# Altium footprint library BGA (1mm Pitch, Square4).PcbLib: 11 footprints (part 5 of 5)
Each footprint in its own frame and in the unit in brackets; x right, y up, seen from the top. Pads: shape width x height; smd on the part's side, far side on the other; paste and mask are expansions set on the pad; w line width, h text height; cw(c..) or ccw(c..) is an arc to the next point about the centre after c.
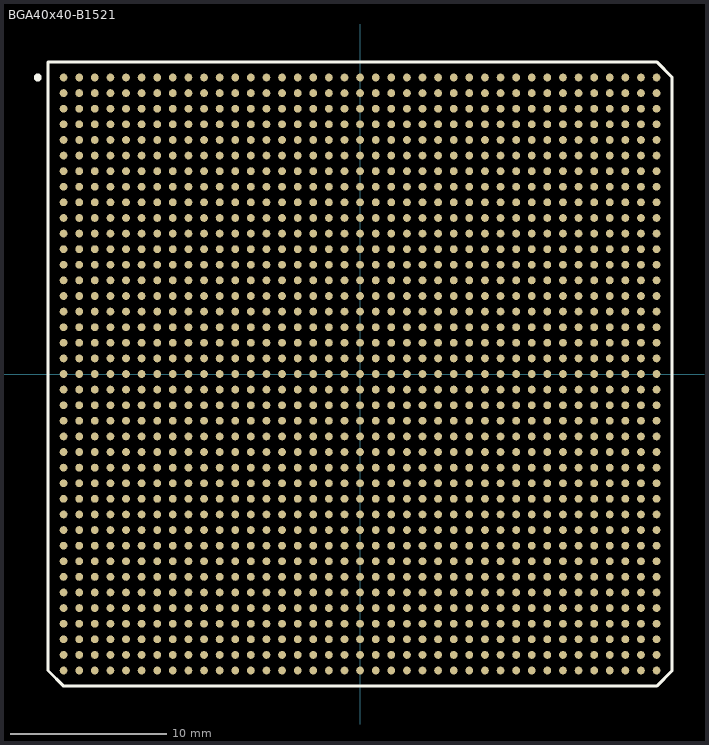
[diagram p4: the footprint, top view; thin cyan lines are the x and y axes]

## BGA40x40-B1521 [mm] "BGA; 1521 Balls; Body 40 x 40 mm; Pitch 1 mm"
height 3.5
pads (1521):
  round 0.5 smd: A1(-19,19) A2(-18,19) A3(-17,19) A4(-16,19) A5(-15,19) A6(-14,19) A7(-13,19) A8(-12,19) A9(-11,19) A10(-10,19) A11(-9,19) A12(-8,19) A13(-7,19) A14(-6,19) A15(-5,19) A16(-4,19) A17(-3,19) A18(-2,19) A19(-1,19) A20(0,19) A21(1,19) A22(2,19) A23(3,19) A24(4,19) A25(5,19) A26(6,19) A27(7,19) A28(8,19) A29(9,19) A30(10,19) A31(11,19) A32(12,19) A33(13,19) A34(14,19) A35(15,19) A36(16,19) A37(17,19) A38(18,19) A39(19,19) AA1(-19,-1) AA2(-18,-1) AA3(-17,-1) AA4(-16,-1) AA5(-15,-1) AA6(-14,-1) AA7(-13,-1) AA8(-12,-1) AA9(-11,-1) AA10(-10,-1) AA11(-9,-1) AA12(-8,-1) AA13(-7,-1) AA14(-6,-1) AA15(-5,-1) AA16(-4,-1) AA17(-3,-1) AA18(-2,-1) AA19(-1,-1) AA20(0,-1) AA21(1,-1) AA22(2,-1) AA23(3,-1) AA24(4,-1) AA25(5,-1) AA26(6,-1) AA27(7,-1) AA28(8,-1) AA29(9,-1) AA30(10,-1) AA31(11,-1) AA32(12,-1) AA33(13,-1) AA34(14,-1) AA35(15,-1) AA36(16,-1) AA37(17,-1) AA38(18,-1) AA39(19,-1) AB1(-19,-2) AB2(-18,-2) AB3(-17,-2) AB4(-16,-2) AB5(-15,-2) AB6(-14,-2) AB7(-13,-2) AB8(-12,-2) AB9(-11,-2) AB10(-10,-2) AB11(-9,-2) AB12(-8,-2) AB13(-7,-2) AB14(-6,-2) AB15(-5,-2) AB16(-4,-2) AB17(-3,-2) AB18(-2,-2) AB19(-1,-2) AB20(0,-2) AB21(1,-2) AB22(2,-2) AB23(3,-2) AB24(4,-2) AB25(5,-2) AB26(6,-2) AB27(7,-2) AB28(8,-2) AB29(9,-2) AB30(10,-2) AB31(11,-2) AB32(12,-2) AB33(13,-2) AB34(14,-2) AB35(15,-2) AB36(16,-2) AB37(17,-2) AB38(18,-2) AB39(19,-2) AC1(-19,-3) AC2(-18,-3) AC3(-17,-3) AC4(-16,-3) AC5(-15,-3) AC6(-14,-3) AC7(-13,-3) AC8(-12,-3) AC9(-11,-3) AC10(-10,-3) AC11(-9,-3) AC12(-8,-3) AC13(-7,-3) AC14(-6,-3) AC15(-5,-3) AC16(-4,-3) AC17(-3,-3) AC18(-2,-3) AC19(-1,-3) AC20(0,-3) AC21(1,-3) AC22(2,-3) AC23(3,-3) AC24(4,-3) AC25(5,-3) AC26(6,-3) AC27(7,-3) AC28(8,-3) AC29(9,-3) AC30(10,-3) AC31(11,-3) AC32(12,-3) AC33(13,-3) AC34(14,-3) AC35(15,-3) AC36(16,-3) AC37(17,-3) AC38(18,-3) AC39(19,-3) AD1(-19,-4) AD2(-18,-4) AD3(-17,-4) AD4(-16,-4) AD5(-15,-4) AD6(-14,-4) AD7(-13,-4) AD8(-12,-4) AD9(-11,-4) AD10(-10,-4) AD11(-9,-4) AD12(-8,-4) AD13(-7,-4) AD14(-6,-4) AD15(-5,-4) AD16(-4,-4) AD17(-3,-4) AD18(-2,-4) AD19(-1,-4) AD20(0,-4) AD21(1,-4) AD22(2,-4) AD23(3,-4) AD24(4,-4) AD25(5,-4) AD26(6,-4) AD27(7,-4) AD28(8,-4) AD29(9,-4) AD30(10,-4) AD31(11,-4) AD32(12,-4) AD33(13,-4) AD34(14,-4) AD35(15,-4) AD36(16,-4) AD37(17,-4) AD38(18,-4) AD39(19,-4) AE1(-19,-5) AE2(-18,-5) AE3(-17,-5) AE4(-16,-5) AE5(-15,-5) AE6(-14,-5) AE7(-13,-5) AE8(-12,-5) AE9(-11,-5) AE10(-10,-5) AE11(-9,-5) AE12(-8,-5) AE13(-7,-5) AE14(-6,-5) AE15(-5,-5) AE16(-4,-5) AE17(-3,-5) AE18(-2,-5) AE19(-1,-5) AE20(0,-5) AE21(1,-5) AE22(2,-5) AE23(3,-5) AE24(4,-5) AE25(5,-5) AE26(6,-5) AE27(7,-5) AE28(8,-5) AE29(9,-5) AE30(10,-5) AE31(11,-5) AE32(12,-5) AE33(13,-5) AE34(14,-5) AE35(15,-5) AE36(16,-5) AE37(17,-5) AE38(18,-5) AE39(19,-5) AF1(-19,-6) AF2(-18,-6) AF3(-17,-6) AF4(-16,-6) AF5(-15,-6) AF6(-14,-6) AF7(-13,-6) AF8(-12,-6) AF9(-11,-6) AF10(-10,-6) AF11(-9,-6) AF12(-8,-6) AF13(-7,-6) AF14(-6,-6) AF15(-5,-6) AF16(-4,-6) AF17(-3,-6) AF18(-2,-6) AF19(-1,-6) AF20(0,-6) AF21(1,-6) AF22(2,-6) AF23(3,-6) AF24(4,-6) AF25(5,-6) AF26(6,-6) AF27(7,-6) AF28(8,-6) AF29(9,-6) AF30(10,-6) AF31(11,-6) AF32(12,-6) AF33(13,-6) AF34(14,-6) AF35(15,-6) AF36(16,-6) AF37(17,-6) AF38(18,-6) AF39(19,-6) AG1(-19,-7) AG2(-18,-7) AG3(-17,-7) AG4(-16,-7) AG5(-15,-7) AG6(-14,-7) AG7(-13,-7) AG8(-12,-7) AG9(-11,-7) AG10(-10,-7) AG11(-9,-7) AG12(-8,-7) AG13(-7,-7) AG14(-6,-7) AG15(-5,-7) AG16(-4,-7) AG17(-3,-7) AG18(-2,-7) AG19(-1,-7) AG20(0,-7) AG21(1,-7) AG22(2,-7) AG23(3,-7) AG24(4,-7) AG25(5,-7) AG26(6,-7) AG27(7,-7) AG28(8,-7) AG29(9,-7) AG30(10,-7) AG31(11,-7) AG32(12,-7) AG33(13,-7) AG34(14,-7) AG35(15,-7) AG36(16,-7) AG37(17,-7) AG38(18,-7) AG39(19,-7) AH1(-19,-8) AH2(-18,-8) AH3(-17,-8) AH4(-16,-8) AH5(-15,-8) AH6(-14,-8) AH7(-13,-8) AH8(-12,-8) AH9(-11,-8) AH10(-10,-8) AH11(-9,-8) AH12(-8,-8) AH13(-7,-8) AH14(-6,-8) AH15(-5,-8) AH16(-4,-8) AH17(-3,-8) AH18(-2,-8) AH19(-1,-8) AH20(0,-8) AH21(1,-8) AH22(2,-8) AH23(3,-8) AH24(4,-8) AH25(5,-8) AH26(6,-8) AH27(7,-8) AH28(8,-8) AH29(9,-8) AH30(10,-8) AH31(11,-8) AH32(12,-8) AH33(13,-8) AH34(14,-8) AH35(15,-8) AH36(16,-8) AH37(17,-8) AH38(18,-8) AH39(19,-8) AJ1(-19,-9) AJ2(-18,-9) AJ3(-17,-9) AJ4(-16,-9) AJ5(-15,-9) AJ6(-14,-9) AJ7(-13,-9) AJ8(-12,-9) AJ9(-11,-9) AJ10(-10,-9) AJ11(-9,-9) AJ12(-8,-9) AJ13(-7,-9) AJ14(-6,-9) AJ15(-5,-9) AJ16(-4,-9) AJ17(-3,-9) AJ18(-2,-9) AJ19(-1,-9) AJ20(0,-9) AJ21(1,-9) AJ22(2,-9) AJ23(3,-9) AJ24(4,-9) AJ25(5,-9) AJ26(6,-9) AJ27(7,-9) AJ28(8,-9) AJ29(9,-9) AJ30(10,-9) AJ31(11,-9) AJ32(12,-9) AJ33(13,-9) AJ34(14,-9) AJ35(15,-9) AJ36(16,-9) AJ37(17,-9) AJ38(18,-9) AJ39(19,-9) AK1(-19,-10) AK2(-18,-10) AK3(-17,-10) AK4(-16,-10) AK5(-15,-10) AK6(-14,-10) AK7(-13,-10) AK8(-12,-10) AK9(-11,-10) AK10(-10,-10) AK11(-9,-10) AK12(-8,-10) AK13(-7,-10) AK14(-6,-10) AK15(-5,-10) AK16(-4,-10) AK17(-3,-10) AK18(-2,-10) AK19(-1,-10) AK20(0,-10) AK21(1,-10) AK22(2,-10) AK23(3,-10) AK24(4,-10) AK25(5,-10) AK26(6,-10) AK27(7,-10) AK28(8,-10) AK29(9,-10) AK30(10,-10) AK31(11,-10) AK32(12,-10) AK33(13,-10) AK34(14,-10) AK35(15,-10) AK36(16,-10) AK37(17,-10) AK38(18,-10) AK39(19,-10) AL1(-19,-11) AL2(-18,-11) AL3(-17,-11) AL4(-16,-11) AL5(-15,-11) AL6(-14,-11) AL7(-13,-11) AL8(-12,-11) AL9(-11,-11) AL10(-10,-11) AL11(-9,-11) AL12(-8,-11) AL13(-7,-11) AL14(-6,-11) AL15(-5,-11) AL16(-4,-11) AL17(-3,-11) AL18(-2,-11) AL19(-1,-11) AL20(0,-11) AL21(1,-11) AL22(2,-11) AL23(3,-11) AL24(4,-11) AL25(5,-11) AL26(6,-11) AL27(7,-11) AL28(8,-11) AL29(9,-11) AL30(10,-11) AL31(11,-11) AL32(12,-11) AL33(13,-11) AL34(14,-11) AL35(15,-11) AL36(16,-11) AL37(17,-11) AL38(18,-11) AL39(19,-11) AM1(-19,-12) AM2(-18,-12) AM3(-17,-12) AM4(-16,-12) AM5(-15,-12) AM6(-14,-12) AM7(-13,-12) AM8(-12,-12) AM9(-11,-12) AM10(-10,-12) AM11(-9,-12) AM12(-8,-12) AM13(-7,-12) AM14(-6,-12) AM15(-5,-12) AM16(-4,-12) AM17(-3,-12) AM18(-2,-12) AM19(-1,-12) AM20(0,-12) AM21(1,-12) AM22(2,-12) AM23(3,-12) AM24(4,-12) AM25(5,-12) AM26(6,-12) AM27(7,-12) AM28(8,-12) AM29(9,-12) AM30(10,-12) AM31(11,-12) AM32(12,-12) AM33(13,-12) AM34(14,-12) AM35(15,-12) AM36(16,-12) AM37(17,-12) AM38(18,-12) AM39(19,-12) AN1(-19,-13) AN2(-18,-13) AN3(-17,-13) AN4(-16,-13) AN5(-15,-13) AN6(-14,-13) AN7(-13,-13) AN8(-12,-13) AN9(-11,-13) AN10(-10,-13) AN11(-9,-13) AN12(-8,-13) AN13(-7,-13) AN14(-6,-13) AN15(-5,-13) AN16(-4,-13) AN17(-3,-13) AN18(-2,-13) AN19(-1,-13) AN20(0,-13) AN21(1,-13) AN22(2,-13) AN23(3,-13) AN24(4,-13) AN25(5,-13) AN26(6,-13) AN27(7,-13) AN28(8,-13) AN29(9,-13) AN30(10,-13) AN31(11,-13) AN32(12,-13) AN33(13,-13) AN34(14,-13) AN35(15,-13) AN36(16,-13) AN37(17,-13) AN38(18,-13) AN39(19,-13) AP1(-19,-14) AP2(-18,-14) AP3(-17,-14) AP4(-16,-14) AP5(-15,-14) AP6(-14,-14) AP7(-13,-14) AP8(-12,-14) AP9(-11,-14) AP10(-10,-14) AP11(-9,-14) AP12(-8,-14) AP13(-7,-14) AP14(-6,-14) AP15(-5,-14) AP16(-4,-14) AP17(-3,-14) AP18(-2,-14) AP19(-1,-14) AP20(0,-14) AP21(1,-14) AP22(2,-14) AP23(3,-14) AP24(4,-14) AP25(5,-14) AP26(6,-14) AP27(7,-14) AP28(8,-14) AP29(9,-14) AP30(10,-14) AP31(11,-14) AP32(12,-14) AP33(13,-14) AP34(14,-14) AP35(15,-14) AP36(16,-14) AP37(17,-14) AP38(18,-14) AP39(19,-14) AR1(-19,-15) AR2(-18,-15) AR3(-17,-15) AR4(-16,-15) AR5(-15,-15) AR6(-14,-15) AR7(-13,-15) AR8(-12,-15) AR9(-11,-15) AR10(-10,-15) AR11(-9,-15) AR12(-8,-15) AR13(-7,-15) AR14(-6,-15) AR15(-5,-15) AR16(-4,-15) AR17(-3,-15) AR18(-2,-15) AR19(-1,-15) AR20(0,-15) AR21(1,-15) AR22(2,-15) AR23(3,-15) AR24(4,-15) AR25(5,-15) AR26(6,-15) AR27(7,-15) AR28(8,-15) AR29(9,-15) AR30(10,-15) AR31(11,-15) AR32(12,-15) AR33(13,-15) AR34(14,-15) AR35(15,-15) AR36(16,-15) AR37(17,-15) AR38(18,-15) AR39(19,-15) AT1(-19,-16) AT2(-18,-16) AT3(-17,-16) AT4(-16,-16) AT5(-15,-16) AT6(-14,-16) AT7(-13,-16) AT8(-12,-16) AT9(-11,-16) AT10(-10,-16) AT11(-9,-16) AT12(-8,-16) AT13(-7,-16) AT14(-6,-16) AT15(-5,-16) AT16(-4,-16) AT17(-3,-16) AT18(-2,-16) AT19(-1,-16) AT20(0,-16) AT21(1,-16) AT22(2,-16) AT23(3,-16) AT24(4,-16) AT25(5,-16) AT26(6,-16) AT27(7,-16) AT28(8,-16) AT29(9,-16) AT30(10,-16) AT31(11,-16) AT32(12,-16) AT33(13,-16) AT34(14,-16) AT35(15,-16) AT36(16,-16) AT37(17,-16) AT38(18,-16) AT39(19,-16) AU1(-19,-17) AU2(-18,-17) AU3(-17,-17) AU4(-16,-17) AU5(-15,-17) AU6(-14,-17) AU7(-13,-17) AU8(-12,-17) AU9(-11,-17) AU10(-10,-17) AU11(-9,-17) AU12(-8,-17) AU13(-7,-17) AU14(-6,-17) AU15(-5,-17) AU16(-4,-17) AU17(-3,-17) AU18(-2,-17) AU19(-1,-17) AU20(0,-17) AU21(1,-17) AU22(2,-17) AU23(3,-17) AU24(4,-17) AU25(5,-17) AU26(6,-17) AU27(7,-17) AU28(8,-17) AU29(9,-17) AU30(10,-17) AU31(11,-17) AU32(12,-17) AU33(13,-17) AU34(14,-17) AU35(15,-17) AU36(16,-17) AU37(17,-17) AU38(18,-17) AU39(19,-17) AV1(-19,-18) AV2(-18,-18) AV3(-17,-18) AV4(-16,-18) AV5(-15,-18) AV6(-14,-18) AV7(-13,-18) AV8(-12,-18) AV9(-11,-18) AV10(-10,-18) AV11(-9,-18) AV12(-8,-18) AV13(-7,-18) AV14(-6,-18) AV15(-5,-18) AV16(-4,-18) AV17(-3,-18) AV18(-2,-18) AV19(-1,-18) AV20(0,-18) AV21(1,-18) AV22(2,-18) AV23(3,-18) AV24(4,-18) AV25(5,-18) AV26(6,-18) AV27(7,-18) AV28(8,-18) AV29(9,-18) AV30(10,-18) AV31(11,-18) AV32(12,-18) AV33(13,-18) AV34(14,-18) AV35(15,-18) AV36(16,-18) AV37(17,-18) AV38(18,-18) AV39(19,-18) AW1(-19,-19) AW2(-18,-19) AW3(-17,-19) AW4(-16,-19) AW5(-15,-19) AW6(-14,-19) AW7(-13,-19) AW8(-12,-19) AW9(-11,-19) AW10(-10,-19) AW11(-9,-19) AW12(-8,-19) AW13(-7,-19) AW14(-6,-19) AW15(-5,-19) AW16(-4,-19) AW17(-3,-19) AW18(-2,-19) AW19(-1,-19) AW20(0,-19) AW21(1,-19) AW22(2,-19) AW23(3,-19) AW24(4,-19) AW25(5,-19) AW26(6,-19) AW27(7,-19) AW28(8,-19) AW29(9,-19) AW30(10,-19) AW31(11,-19) AW32(12,-19) AW33(13,-19) AW34(14,-19) AW35(15,-19) AW36(16,-19) AW37(17,-19) AW38(18,-19) AW39(19,-19) B1(-19,18) B2(-18,18) B3(-17,18) B4(-16,18) B5(-15,18) B6(-14,18) B7(-13,18) B8(-12,18) B9(-11,18) B10(-10,18) B11(-9,18) B12(-8,18) B13(-7,18) B14(-6,18) B15(-5,18) B16(-4,18) B17(-3,18) B18(-2,18) B19(-1,18) B20(0,18) B21(1,18) B22(2,18) B23(3,18) B24(4,18) B25(5,18) B26(6,18) B27(7,18) B28(8,18) B29(9,18) B30(10,18) B31(11,18) B32(12,18) B33(13,18) B34(14,18) B35(15,18) B36(16,18) B37(17,18) B38(18,18) B39(19,18) C1(-19,17) C2(-18,17) C3(-17,17) C4(-16,17) C5(-15,17) C6(-14,17) C7(-13,17) C8(-12,17) C9(-11,17) C10(-10,17) C11(-9,17) C12(-8,17) C13(-7,17) C14(-6,17) C15(-5,17) C16(-4,17) C17(-3,17) C18(-2,17) C19(-1,17) C20(0,17) C21(1,17) C22(2,17) C23(3,17) C24(4,17) C25(5,17) C26(6,17) C27(7,17) C28(8,17) C29(9,17) C30(10,17) C31(11,17) C32(12,17) C33(13,17) C34(14,17) C35(15,17) C36(16,17) C37(17,17) C38(18,17) C39(19,17) D1(-19,16) D2(-18,16) D3(-17,16) D4(-16,16) D5(-15,16) D6(-14,16) D7(-13,16) D8(-12,16) D9(-11,16) D10(-10,16) D11(-9,16) D12(-8,16) D13(-7,16) D14(-6,16) D15(-5,16) D16(-4,16) D17(-3,16) D18(-2,16) D19(-1,16) D20(0,16) D21(1,16) D22(2,16) D23(3,16) D24(4,16) D25(5,16) D26(6,16) D27(7,16) D28(8,16) D29(9,16) D30(10,16) D31(11,16) D32(12,16) D33(13,16) D34(14,16) D35(15,16) D36(16,16) D37(17,16) D38(18,16) D39(19,16) E1(-19,15) E2(-18,15) E3(-17,15) E4(-16,15) E5(-15,15) E6(-14,15) E7(-13,15) E8(-12,15) E9(-11,15) E10(-10,15) E11(-9,15) E12(-8,15) E13(-7,15) E14(-6,15) E15(-5,15) E16(-4,15) E17(-3,15) E18(-2,15) E19(-1,15) E20(0,15) E21(1,15) E22(2,15) E23(3,15) E24(4,15) E25(5,15) E26(6,15) E27(7,15) E28(8,15) E29(9,15) E30(10,15) E31(11,15) E32(12,15) E33(13,15) E34(14,15) E35(15,15) E36(16,15) E37(17,15) E38(18,15) E39(19,15) F1(-19,14) F2(-18,14) F3(-17,14) F4(-16,14) F5(-15,14) F6(-14,14) F7(-13,14) F8(-12,14) F9(-11,14) F10(-10,14) F11(-9,14) F12(-8,14) F13(-7,14) F14(-6,14) F15(-5,14) F16(-4,14) F17(-3,14) F18(-2,14) F19(-1,14) F20(0,14) F21(1,14) F22(2,14) F23(3,14) F24(4,14) F25(5,14) F26(6,14) F27(7,14) F28(8,14) F29(9,14) F30(10,14) F31(11,14) F32(12,14) F33(13,14) F34(14,14) F35(15,14) F36(16,14) F37(17,14) F38(18,14) F39(19,14) G1(-19,13) G2(-18,13) G3(-17,13) G4(-16,13) G5(-15,13) G6(-14,13) G7(-13,13) G8(-12,13) G9(-11,13) G10(-10,13) G11(-9,13) G12(-8,13) G13(-7,13) G14(-6,13) G15(-5,13) G16(-4,13) G17(-3,13) G18(-2,13) G19(-1,13) G20(0,13) G21(1,13) G22(2,13) G23(3,13) G24(4,13) G25(5,13) G26(6,13) G27(7,13) G28(8,13) G29(9,13) G30(10,13) G31(11,13) G32(12,13) G33(13,13) G34(14,13) G35(15,13) G36(16,13) G37(17,13) G38(18,13) G39(19,13) H1(-19,12) H2(-18,12) H3(-17,12) H4(-16,12) H5(-15,12) H6(-14,12) H7(-13,12) H8(-12,12) H9(-11,12) H10(-10,12) H11(-9,12) H12(-8,12) H13(-7,12) H14(-6,12) H15(-5,12) H16(-4,12) H17(-3,12) H18(-2,12) H19(-1,12) H20(0,12) H21(1,12) H22(2,12) H23(3,12) H24(4,12) H25(5,12) H26(6,12) H27(7,12) H28(8,12) H29(9,12) H30(10,12) H31(11,12) H32(12,12) H33(13,12) H34(14,12) H35(15,12) H36(16,12) H37(17,12) H38(18,12) H39(19,12) J1(-19,11) J2(-18,11) J3(-17,11) J4(-16,11) J5(-15,11) J6(-14,11) J7(-13,11) J8(-12,11) J9(-11,11) J10(-10,11) J11(-9,11) J12(-8,11) J13(-7,11) J14(-6,11) J15(-5,11) J16(-4,11) J17(-3,11) J18(-2,11) J19(-1,11) J20(0,11) J21(1,11) J22(2,11) J23(3,11) J24(4,11) J25(5,11) J26(6,11) J27(7,11) J28(8,11) J29(9,11) J30(10,11) J31(11,11) J32(12,11) J33(13,11) J34(14,11) J35(15,11) J36(16,11) J37(17,11) J38(18,11) J39(19,11) K1(-19,10) K2(-18,10) K3(-17,10) K4(-16,10) K5(-15,10) K6(-14,10) K7(-13,10) K8(-12,10) K9(-11,10) K10(-10,10) K11(-9,10) K12(-8,10) K13(-7,10) K14(-6,10) K15(-5,10) K16(-4,10) K17(-3,10) K18(-2,10) K19(-1,10) K20(0,10) K21(1,10) K22(2,10) K23(3,10) K24(4,10) K25(5,10) K26(6,10) K27(7,10) K28(8,10) K29(9,10) K30(10,10) K31(11,10) K32(12,10) K33(13,10) K34(14,10) K35(15,10) K36(16,10) K37(17,10) K38(18,10) K39(19,10) L1(-19,9) L2(-18,9) L3(-17,9) L4(-16,9) L5(-15,9) L6(-14,9) L7(-13,9) L8(-12,9) L9(-11,9) L10(-10,9) L11(-9,9) L12(-8,9) L13(-7,9) L14(-6,9) L15(-5,9) L16(-4,9) L17(-3,9) L18(-2,9) L19(-1,9) L20(0,9) L21(1,9) L22(2,9) L23(3,9) L24(4,9) L25(5,9) L26(6,9) L27(7,9) L28(8,9) L29(9,9) L30(10,9) L31(11,9) L32(12,9) L33(13,9) L34(14,9) L35(15,9) L36(16,9) L37(17,9) L38(18,9) L39(19,9) M1(-19,8) M2(-18,8) M3(-17,8) M4(-16,8) M5(-15,8) M6(-14,8) M7(-13,8) M8(-12,8) M9(-11,8) M10(-10,8) M11(-9,8) M12(-8,8) M13(-7,8) M14(-6,8) M15(-5,8) M16(-4,8) M17(-3,8) M18(-2,8) M19(-1,8) M20(0,8) M21(1,8) M22(2,8) M23(3,8) M24(4,8) M25(5,8) M26(6,8) M27(7,8) M28(8,8) M29(9,8) M30(10,8) M31(11,8) M32(12,8) M33(13,8) M34(14,8) M35(15,8) M36(16,8) M37(17,8) M38(18,8) M39(19,8) N1(-19,7) N2(-18,7) N3(-17,7) N4(-16,7) N5(-15,7) N6(-14,7) N7(-13,7) N8(-12,7) N9(-11,7) N10(-10,7) N11(-9,7) N12(-8,7) N13(-7,7) N14(-6,7) N15(-5,7) N16(-4,7) N17(-3,7) N18(-2,7) N19(-1,7) N20(0,7) N21(1,7) N22(2,7) N23(3,7) N24(4,7) N25(5,7) N26(6,7) N27(7,7) N28(8,7) N29(9,7) N30(10,7) N31(11,7) N32(12,7) N33(13,7) N34(14,7) N35(15,7) N36(16,7) N37(17,7) N38(18,7) N39(19,7) P1(-19,6) P2(-18,6) P3(-17,6) P4(-16,6) P5(-15,6) P6(-14,6) P7(-13,6) P8(-12,6) P9(-11,6) P10(-10,6) P11(-9,6) P12(-8,6) P13(-7,6) P14(-6,6) P15(-5,6) P16(-4,6) P17(-3,6) P18(-2,6) P19(-1,6) P20(0,6) P21(1,6) P22(2,6) P23(3,6) P24(4,6) P25(5,6) P26(6,6) P27(7,6) P28(8,6) P29(9,6) P30(10,6) P31(11,6) P32(12,6) P33(13,6) P34(14,6) P35(15,6) P36(16,6) P37(17,6) P38(18,6) P39(19,6) R1(-19,5) R2(-18,5) R3(-17,5) R4(-16,5) R5(-15,5) R6(-14,5) R7(-13,5) R8(-12,5) R9(-11,5) R10(-10,5) R11(-9,5) R12(-8,5) R13(-7,5) R14(-6,5) R15(-5,5) R16(-4,5) R17(-3,5) R18(-2,5) R19(-1,5) R20(0,5) R21(1,5) R22(2,5) R23(3,5) R24(4,5) R25(5,5) R26(6,5) R27(7,5) R28(8,5) R29(9,5) R30(10,5) R31(11,5) R32(12,5) R33(13,5) R34(14,5) R35(15,5) R36(16,5) R37(17,5) R38(18,5) R39(19,5) T1(-19,4) T2(-18,4) T3(-17,4) T4(-16,4) T5(-15,4) T6(-14,4) T7(-13,4) T8(-12,4) T9(-11,4) T10(-10,4) T11(-9,4) T12(-8,4) T13(-7,4) T14(-6,4) T15(-5,4) T16(-4,4) T17(-3,4) T18(-2,4) T19(-1,4) T20(0,4) T21(1,4) T22(2,4) T23(3,4) T24(4,4) T25(5,4) T26(6,4) T27(7,4) T28(8,4) T29(9,4) T30(10,4) T31(11,4) T32(12,4) T33(13,4) T34(14,4) T35(15,4) T36(16,4) T37(17,4) T38(18,4) T39(19,4) U1(-19,3) U2(-18,3) U3(-17,3) U4(-16,3) U5(-15,3) U6(-14,3) U7(-13,3) U8(-12,3) U9(-11,3) U10(-10,3) U11(-9,3) U12(-8,3) U13(-7,3) U14(-6,3) U15(-5,3) U16(-4,3) U17(-3,3) U18(-2,3) U19(-1,3) U20(0,3) U21(1,3) U22(2,3) U23(3,3) U24(4,3) U25(5,3) U26(6,3) U27(7,3) U28(8,3) U29(9,3) U30(10,3) U31(11,3) U32(12,3) U33(13,3) U34(14,3) U35(15,3) U36(16,3) U37(17,3) U38(18,3) U39(19,3) V1(-19,2) V2(-18,2) V3(-17,2) V4(-16,2) V5(-15,2) V6(-14,2) V7(-13,2) V8(-12,2) V9(-11,2) V10(-10,2) V11(-9,2) V12(-8,2) V13(-7,2) V14(-6,2) V15(-5,2) V16(-4,2) V17(-3,2) V18(-2,2) V19(-1,2) V20(0,2) V21(1,2) V22(2,2) V23(3,2) V24(4,2) V25(5,2) V26(6,2) V27(7,2) V28(8,2) V29(9,2) V30(10,2) V31(11,2) V32(12,2) V33(13,2) V34(14,2) V35(15,2) V36(16,2) V37(17,2) V38(18,2) V39(19,2) W1(-19,1) W2(-18,1) W3(-17,1) W4(-16,1) W5(-15,1) W6(-14,1) W7(-13,1) W8(-12,1) W9(-11,1) W10(-10,1) W11(-9,1) W12(-8,1) W13(-7,1) W14(-6,1) W15(-5,1) W16(-4,1) W17(-3,1) W18(-2,1) W19(-1,1) W20(0,1) W21(1,1) W22(2,1) W23(3,1) W24(4,1) W25(5,1) W26(6,1) W27(7,1) W28(8,1) W29(9,1) W30(10,1) W31(11,1) W32(12,1) W33(13,1) W34(14,1) W35(15,1) W36(16,1) W37(17,1) W38(18,1) W39(19,1) Y1(-19,0) Y2(-18,0) Y3(-17,0) Y4(-16,0) Y5(-15,0) Y6(-14,0) Y7(-13,0) Y8(-12,0) Y9(-11,0) Y10(-10,0) Y11(-9,0) Y12(-8,0) Y13(-7,0) Y14(-6,0) Y15(-5,0) Y16(-4,0) Y17(-3,0) Y18(-2,0) Y19(-1,0) Y20(0,0) Y21(1,0) Y22(2,0) Y23(3,0) Y24(4,0) Y25(5,0) Y26(6,0) Y27(7,0) Y28(8,0) Y29(9,0) Y30(10,0) Y31(11,0) Y32(12,0) Y33(13,0) Y34(14,0) Y35(15,0) Y36(16,0) Y37(17,0) Y38(18,0) Y39(19,0)
Top Overlay:
  circle w0.25: c-20.655,19 r0.125
  lines w0.2: -20,-19 -20,20 19,20 20,19 20,-19 19,-20 -19,-20 -20,-19